# EAGLE library part 16SIP (library My Library-adm)
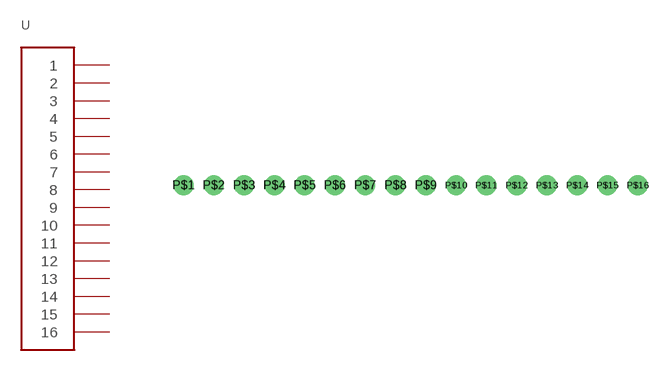
[diagram p20: symbol with the pads of 16SIP; footprint 16SIP]

Designator prefix -

## 16SIP  [16SIP]
P$1  1
P$2  2
P$3  3
P$4  4
P$5  5
P$6  6
P$7  7
P$8  8
P$9  9
P$10  10
P$11  11
P$12  12
P$13  13
P$14  14
P$15  15
P$16  16

## Footprint 16SIP (pad centres in mm)
drill 0.8: P$1 -14,0; P$2 -12,0; P$3 -10,0; P$4 -8,0; P$5 -6,0; P$6 -4,0; P$7 -2,0; P$8 0,0; P$9 2,0; P$10 4,0; P$11 6,0; P$12 8,0; P$13 10,0; P$14 12,0; P$15 14,0; P$16 16,0